# Altium footprint library TQFP-80.PcbLib: 1 footprints
Each footprint in its own frame and in the unit in brackets; x right, y up, seen from the top. Pads: shape width x height; smd on the part's side, far side on the other; paste and mask are expansions set on the pad; w line width, h text height; cw(c..) or ccw(c..) is an arc to the next point about the centre after c.
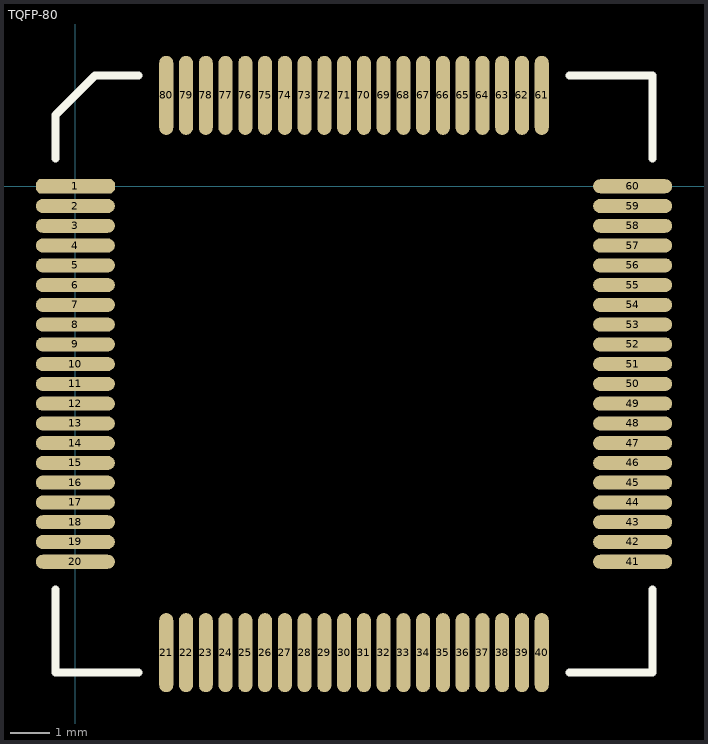
[diagram p0: the footprint, top view; thin cyan lines are the x and y axes]

## TQFP-80 [mm]
height 2.032
pads (80):
  oct 2x0.356 smd: 1(0,0)
  oval 2x0.356 smd: 2(0,-0.5) 3(0,-1) 4(0,-1.5) 5(0,-2) 6(0,-2.5) 7(0,-3) 8(0,-3.5) 9(0,-4) 10(0,-4.5) 11(0,-5) 12(0,-5.5) 13(0,-6) 14(0,-6.5) 15(0,-7) 16(0,-7.5) 17(0,-8) 18(0,-8.5) 19(0,-9) 20(0,-9.5) 41(14.1,-9.5) 42(14.1,-9) 43(14.1,-8.5) 44(14.1,-8) 45(14.1,-7.5) 46(14.1,-7) 47(14.1,-6.5) 48(14.1,-6) 49(14.1,-5.5) 50(14.1,-5) 51(14.1,-4.5) 52(14.1,-4) 53(14.1,-3.5) 54(14.1,-3) 55(14.1,-2.5) 56(14.1,-2) 57(14.1,-1.5) 58(14.1,-1) 59(14.1,-0.5) 60(14.1,0)
  oval 0.356x2 smd: 21(2.3,-11.8) 22(2.8,-11.8) 23(3.3,-11.8) 24(3.8,-11.8) 25(4.3,-11.8) 26(4.8,-11.8) 27(5.3,-11.8) 28(5.8,-11.8) 29(6.3,-11.8) 30(6.8,-11.8) 31(7.3,-11.8) 32(7.8,-11.8) 33(8.3,-11.8) 34(8.8,-11.8) 35(9.3,-11.8) 36(9.8,-11.8) 37(10.3,-11.8) 38(10.8,-11.8) 39(11.3,-11.8) 40(11.8,-11.8) 61(11.8,2.3) 62(11.3,2.3) 63(10.8,2.3) 64(10.3,2.3) 65(9.8,2.3) 66(9.3,2.3) 67(8.8,2.3) 68(8.3,2.3) 69(7.8,2.3) 70(7.3,2.3) 71(6.8,2.3) 72(6.3,2.3) 73(5.8,2.3) 74(5.3,2.3) 75(4.8,2.3) 76(4.3,2.3) 77(3.8,2.3) 78(3.3,2.3) 79(2.8,2.3) 80(2.3,2.3)
TopOverlay:
  lines w0.2: -0.5,-10.2 -0.5,-12.3 1.6,-12.3 ; -0.5,0.7 -0.5,1.8 0.5,2.8 1.6,2.8 ; 12.5,-12.3 14.6,-12.3 14.6,-10.2 ; 12.5,2.8 14.6,2.8 14.6,0.7
Mechanical4:
  text ".047" at 0,0 h0.03
3D body: height 1.08, standoff 0.02, extent 0.043,-11.758 14.043,2.242